# Altium schematic symbol library C0201.SchLib: 1 symbol
Pins are listed as number, name and electrical type; pins without a type are passive.

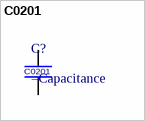
[diagram p0: symbol C0201]

## C0201
designator C?
pins: 1, 2